# Altium schematic symbol library SKY13575-639LF.Schlib: 1 symbol
Pins are listed as number, name and electrical type; pins without a type are passive.

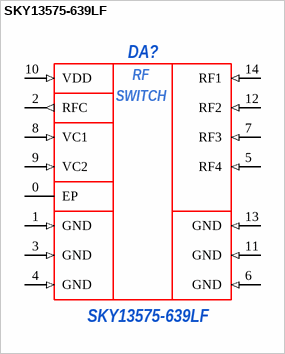
[diagram p0: symbol SKY13575-639LF]

## SKY13575-639LF
designator DA?
Переключатель ВЧ сигнала; manufacturer: *; ManufacturerPartNumber: *; Power/Voltage: *; Rem: *; TKE: *; Tolerance: *; Type: *; Value: *; Корпус: *; Примечание: *
footprint QFN14
pins: 0 EP, 1 GND (in), 2 RFC (out), 3 GND (in), 4 GND (in), 5 RF4 (in), 6 GND (in), 7 RF3 (in), 8 VC1 (in), 9 VC2 (in), 10 VDD (in), 11 GND (in), 12 RF2 (in), 13 GND (in), 14 RF1 (in)
text: RF; SWITCH